# EAGLE library part MAX3185X (library Takaitra)
MAX31850/MAX31851 One-Wire Thermocouple to Digital Converter
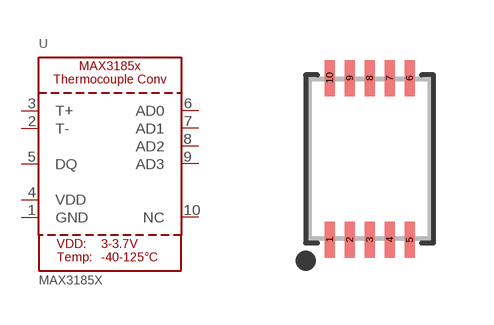
[diagram p0: symbol with the pads of TDFN10_3X4MM_V2; footprint TDFN10_3X4MM_V2]

Designator prefix U

## MAX3185X  [TDFN10_3X4MM_V2]
1  GND  pwr
2  T-  in
3  T+  in
4  VDD  pwr
5  DQ
6  AD0  in
7  AD1  in
8  AD2  in
9  AD3  in
10  NC  nc

## Footprint TDFN10_3X4MM_V2 (pad centres in mm)
Source: http://pdfserv.maximintegrated.com/package_dwgs/21-0268.PDF
smd 0.25 x 0.9: 1 -1,-2.02; 2 -0.5,-2.02; 3 0,-2.02; 4 0.5,-2.02; 5 1,-2.02; 6 1,2.02; 7 0.5,2.02; 8 0,2.02; 9 -0.5,2.02; 10 -1,2.02